# Altium footprint library 直插.PcbLib: 159 footprints (part 2 of 10)
Each footprint in its own frame and in the unit in brackets; x right, y up, seen from the top. Pads: shape width x height; smd on the part's side, far side on the other; paste and mask are expansions set on the pad; w line width, h text height; cw(c..) or ccw(c..) is an arc to the next point about the centre after c.
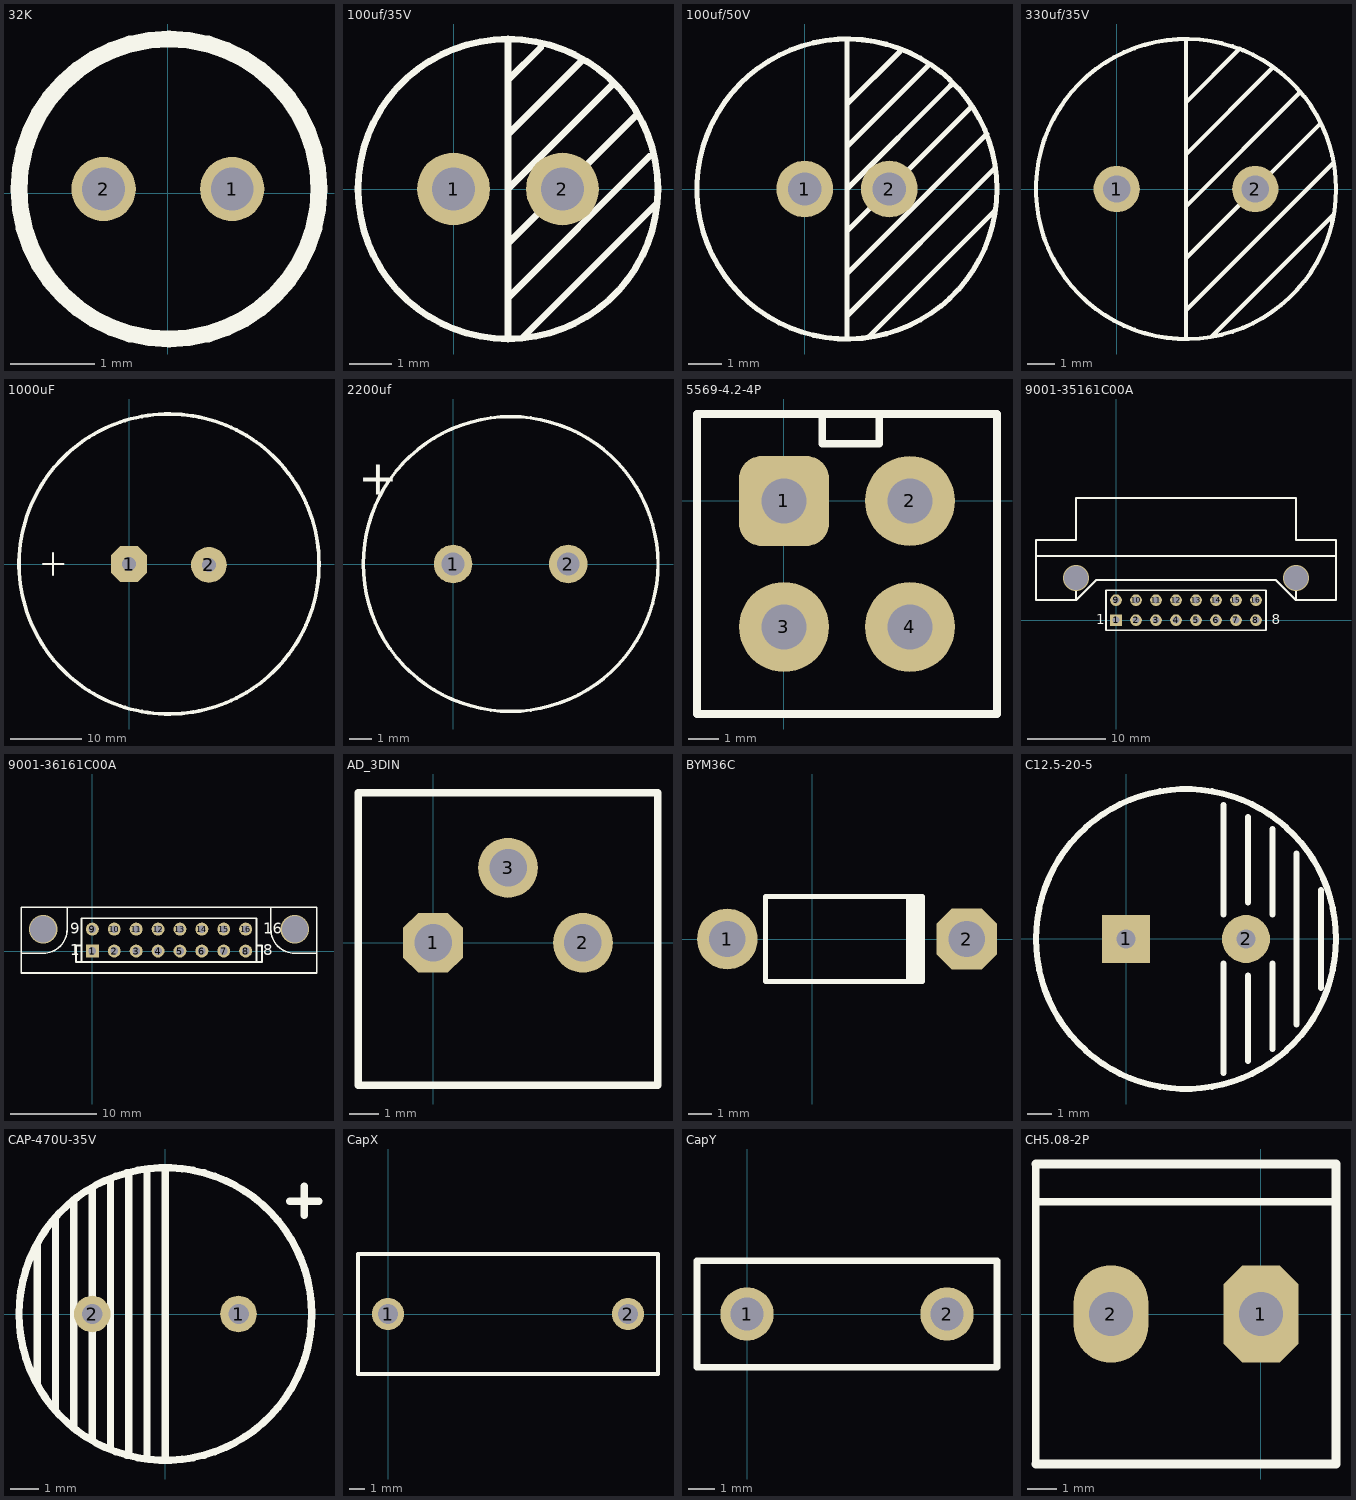
[diagram p1: the footprints below, top view; thin cyan lines are the x and y axes]

## 32K [mil]
pads (2):
  round 30 hole 20: 1(30,2) 2(-30,2)
Top Overlay:
  circle w7.87: c0.51,2 r70

## 100uf/35V [mm]
pads (2):
  round 1.7 hole 1: 1(0,0) 2(2.54,0)
Top Overlay:
  circle w0.154: c1.27,0 r3.5
  lines w0.154: 1.27,-3.429 1.27,3.429 ; 1.27,-2.54 4.572,0.762 ; 1.27,-1.27 4.255,1.714 ; 1.27,0 3.683,2.413 ; 1.27,1.27 2.984,2.984 ; 1.27,2.54 2.032,3.302 ; 1.651,-3.429 4.699,-0.381

## 100uf/50V [mm]
pads (2):
  round 1.7 hole 1: 1(0,0) 2(2.54,0)
Top Overlay:
  circle w0.154: c1.27,0 r4.5
  lines w0.154: 1.27,-4.445 1.27,4.445 ; 1.27,-3.81 5.715,0.635 ; 1.27,-2.54 5.461,1.651 ; 1.27,-1.27 4.953,2.413 ; 1.27,0 4.381,3.111 ; 1.27,1.27 3.683,3.683 ; 1.27,2.54 2.857,4.127 ; 1.905,-4.445 5.715,-0.635

## 330uf/35V [mm]
pads (2):
  round 1.7 hole 1: 1(0,0) 2(5.08,0)
Top Overlay:
  circle w0.154: c2.54,0 r5.5
  lines w0.154: 2.54,-5.461 2.54,5.461 ; 2.54,-4.445 7.938,0.953 ; 2.54,-2.54 7.493,2.413 ; 2.54,-0.635 6.731,3.556 ; 2.54,1.27 5.715,4.445 ; 2.54,3.175 4.508,5.143 ; 3.492,-5.397 7.938,-0.953

## 1000uF [mm]
pads (2):
  oct 5x5 hole 2: 1(0,0)
  round 5 hole 2: 2(11.176,-0.127)
Top Overlay:
  circle w0.508: c5.588,0 r21
  lines w0.254: -12.065,0 -10.541,0 -9.144,0 ; -10.668,-1.524 -10.668,1.524

## 2200uf [mm]
pads (2):
  round 1.7 hole 1: 1(0,0) 2(5.08,0)
Top Overlay:
  circle w0.154: c2.54,0 r6.5
  text "+" at -4.191,3.048 h1.52

## 5569-4.2-4P [mm]
pads (4):
  rrect50% 3x3 hole 1.5: 1(0,0)
  round 3 hole 1.5: 2(4.2,0) 3(0,-4.2) 4(4.2,-4.2)
Top Overlay:
  lines w0.254: 1.27,2.9 1.27,1.905 3.175,1.905 3.175,2.9 ; -2.9,-7.1 7.1,-7.1 7.1,2.9 -2.9,2.9 -2.9,-7.1

## 9001-35161C00A [mm] "欧式插座 DIN 9001-35161C00A 216 2*8P 16P 公头弯针 2.54间距"
height 1.1
pads (16):
  rect 1.5x1.5 hole 0.9: 1(0,0)
  round 1.5 hole 0.9: 2(2.54,0) 3(5.08,0) 4(7.62,0) 5(10.16,0) 6(12.7,0) 7(15.24,0) 8(17.78,0) 9(0,2.54) 10(2.54,2.54) 11(5.08,2.54) 12(7.62,2.54) 13(10.16,2.54) 14(12.7,2.54) 15(15.24,2.54) 16(17.78,2.54)
via 22.86,5.38 diameter 3.302 hole 3.048
via -5.08,5.38 diameter 3.302 hole 3.048
Top Overlay:
  lines w0.2: -1.27,-1.27 -1.27,3.81 19.05,3.81 19.05,-1.27 -1.27,-1.27
  lines w0.254: -5.08,5.38 -5.08,2.54 ; -5.08,15.494 22.86,15.494 22.86,10.16 27.94,10.16 27.94,8.128 ; -5.08,15.54 -5.08,10.16 -10.16,10.16 -10.16,8.128 ; 22.86,5.38 22.86,2.54 ; -10.16,8.128 27.94,8.128 ; -10.16,8.128 -10.16,2.54 -5.08,2.54 ; -5.08,2.54 -2.54,5.08 20.32,5.08 22.86,2.54 ; 22.86,2.54 27.94,2.54 27.94,8.128
  text "1" at -2.54,-0.508 h1.27
  text "8" at 19.812,-0.508 h1.27

## 9001-36161C00A [mm] "ŷʽConnector; Header; 8x2 Position"
height 1.1
pads (16):
  rect 1.5x1.5 hole 0.9: 1(0,0)
  round 1.5 hole 0.9: 2(2.54,0) 3(5.08,0) 4(7.62,0) 5(10.16,0) 6(12.7,0) 7(15.24,0) 8(17.78,0) 9(0,2.54) 10(2.54,2.54) 11(5.08,2.54) 12(7.62,2.54) 13(10.16,2.54) 14(12.7,2.54) 15(15.24,2.54) 16(17.78,2.54)
via -5.715,2.54 diameter 3.302 hole 3.048
via 23.495,2.54 diameter 3.302 hole 3.048
Top Overlay:
  lines w0.2: -8.255,-0.254 -5.715,-0.254 ccw(c-5.715,2.54) -2.921,2.54 -2.921,5.08 ; -1.27,0.635 -1.905,0.635 -1.905,-1.27 -1.27,-1.27 ; 19.05,0.635 19.685,0.635 19.685,-1.27 19.05,-1.27 ; 20.701,5.08 20.701,2.54 ccw(c23.495,2.54) 23.495,-0.254 26.035,-0.254 ; -1.27,-1.27 19.05,-1.27 ; -1.27,-1.27 -1.27,3.81 19.05,3.81 19.05,-1.27 ; -8.255,-2.54 -8.255,5.08 26.035,5.08 26.035,-2.54 -8.255,-2.54
  text "16" at 19.812,2.032 h1.27
  text "8" at 19.812,-0.508 h1.27
  text "1" at -2.54,-0.508 h1.27
  text "9" at -2.54,2.032 h1.27

## AD_3DIN [mil]
height 68.9
pads (3):
  oct 80x80 hole 50: 1(0,0)
  round 80 hole 50: 2(200,0) 3(100,100)
Top Overlay:
  lines w10: -100,-190 -100,200 100,200 300,200 300,-190 -100,-190

## BYM36C [mil]
height 74.8
pads (2):
  round 100 hole 60: 1(-139.76,0)
  oct 100x100 hole 60: 2(255,0)
Top Overlay:
  rectangle: 155.1,-70 186.6,70
  lines w7.87: 182.6,-37.4 182.6,-70 44.17,-70 -76.77,-70 -76.77,70 44.17,70 182.6,70 182.6,37.4

## C12.5-20-5 [mm]
pads (2):
  rect 2x2 hole 0.8: 1(0,0)
  round 2 hole 0.8: 2(5,0)
Top Overlay:
  circle w0.254: c2.5,0 r6.25
  lines w0.254: 4.064,-5.588 4.064,-1.016 ; 4.064,1.016 4.064,5.588 ; 5.08,-5.08 5.08,-1.524 ; 5.08,1.524 5.08,5.08 ; 6.096,-4.572 6.096,-1.016 ; 6.096,1.016 6.096,4.572 ; 7.112,-3.556 7.112,3.556 ; 8.128,-2.032 8.128,2.032

## CAP-470U-35V [mil]
pads (2):
  round 50 hole 28: 1(100,0) 2(-100,0)
Top Overlay:
  circle w10: c0,0 r200
  lines w10: -175,-96 -175,96 ; -150,-131 -150,132 ; -125,-154 -125,155 ; -100,-173 -100,173 ; -75,-183 -75,185 ; -50,-193 -50,193 ; -25,-197 -25,198 ; 0,-199 0,199 ; 170,154 210,154 ; 190,135 190,175

## CapX [mil]
pads (2):
  round 80 hole 50: 1(0,0) 2(600,0)
Top Overlay:
  lines w10: -75,-150 -75,150 675,150 675,-150 -75,-150

## CapY [mil]
pads (2):
  round 80 hole 50: 1(0,0) 2(300,0)
Top Overlay:
  lines w10: -75,-80 375,-80 375,80 -75,80 -75,-80

## CH5.08-2P [mil] "白色接插件"
pads (2):
  oct 100x130 hole 59.06: 1(0,0)
  oval 100x130 hole 59.06: 2(-200,0)
Top Overlay:
  lines w10: -300,-200 -300,200 ; -300,150 100,150
  lines w12: -300,-200 100,-200 100,200 -300,200